# Altium footprint library PlateCutouts_OldMoney.PcbLib: 27 footprints (part 2 of 3)
Each footprint in its own frame and in the unit in brackets; x right, y up, seen from the top. Pads: shape width x height; smd on the part's side, far side on the other; paste and mask are expansions set on the pad; w line width, h text height; cw(c..) or ccw(c..) is an arc to the next point about the centre after c.
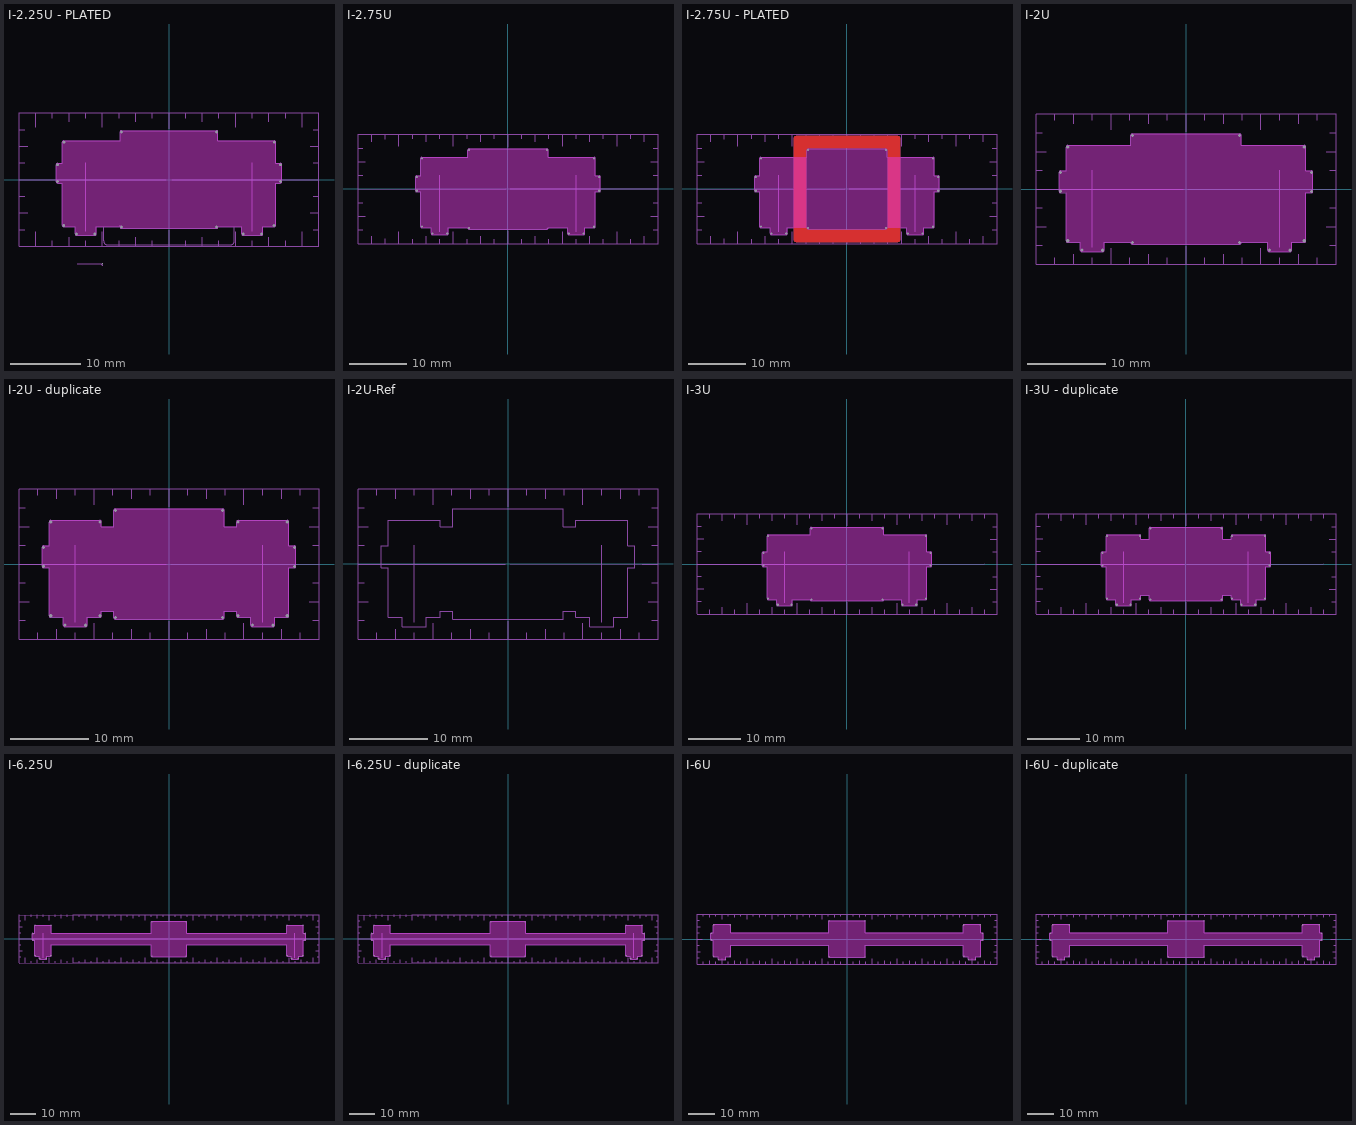
[diagram p1: the footprints below, top view; thin cyan lines are the x and y axes]

## I-2.25U - PLATED [mm] "Imperial Sizing"
pads (17):
  round 0.1 hole 0.4 unplated: 27(-15.925,-0.295) 27(-15.92,2.1) 27(-15.025,-6.565) 27(-15.02,5.33) 27(-13.2,-7.765) 27(-10.605,-7.77) 27(-6.8,-6.8) 27(-6.795,6.8) 27(6.795,-6.8) 27(6.8,6.795) 27(10.6,-7.765) 27(13.195,-7.77) 27(15.02,-6.57) 27(15.025,5.325) 27(15.92,-0.3) 27(15.925,2.095)
  round 0.05 hole 0.1: 31(-9.481,-12.033)
Keep-Out Layer:
  drawing of 1 lines, arcs and shapes, not listed
Board Outline:
  lines w0.1: -16.125,-0.3 ccw(c-15.925,-0.3) -15.925,-0.5 -15.225,-0.5 -15.225,-6.57 ccw(c-15.025,-6.57) -15.025,-6.77 -13.4,-6.77 -13.4,-7.77 ccw(c-13.2,-7.77) -13.2,-7.97 -10.6,-7.97 ccw(c-10.6,-7.77) -10.4,-7.77 -10.4,-6.77 -7,-6.77 -7,-6.8 ccw(c-6.8,-6.8) -6.8,-7 6.8,-7 ccw(c6.8,-6.8) 7,-6.8 7,-6.77 10.4,-6.77 10.4,-7.77 ccw(c10.6,-7.77) 10.6,-7.97 13.2,-7.97 ccw(c13.2,-7.77) 13.4,-7.77 13.4,-6.77 15.025,-6.77 ccw(c15.025,-6.57) 15.225,-6.57 15.225,-0.5 15.925,-0.5 ccw(c15.925,-0.3) 16.125,-0.3 16.125,2.1 ccw(c15.925,2.1) 15.925,2.3 15.225,2.3 15.225,5.33 ccw(c15.025,5.33) 15.025,5.53 7,5.53 7,6.8 ccw(c6.8,6.8) 6.8,7 -6.8,7 ccw(c-6.8,6.8) -7,6.8 -7,5.53 -15.025,5.53 ccw(c-15.025,5.33) -15.225,5.33 -15.225,2.3 -15.925,2.3 ccw(c-15.925,2.1) -16.125,2.1 -16.125,-0.3
  text "Cut Out" at -6.122,2.802 h1
  text "Cut Out" at 2.802,6.009 h1
  text "Cut Out" at 6.009,-2.915 h1
  text "Cut Out" at -2.915,-6.122 h1
Layout + Dimensions:
  lines w0.1: -21.431,-7.144 -20.644,-7.144 ; -21.431,-4.763 -20.161,-4.763 ; -21.431,-2.381 -20.644,-2.381 ; -21.431,0 -0.375,0 ; -21.431,2.381 -20.644,2.381 ; -21.431,4.762 -20.161,4.762 ; -21.431,7.144 -20.644,7.144 ; -19.05,-9.5 -19.05,-7.5 ; -19.05,7.5 -19.05,9.5 ; -16.669,-9.525 -16.669,-8.738 ; -16.669,8.738 -16.669,9.525 ; -14.287,-9.525 -14.287,-8.255 ; -14.287,8.255 -14.287,9.525 ; -13.081,-12.008 -9.681,-12.008 -9.681,-12.038 ccw(c-9.481,-12.038) -9.481,-12.238 ; -11.906,-9.525 -11.906,-8.738 ; -11.906,8.738 -11.906,9.525 ; -11.9,-7.425 -11.9,2.375 ; -9.525,-9.5 -9.525,-7.5 ; -9.525,7.5 -9.525,9.5 ; -9.335,-6.765 -7.45,-6.765 -7.429,-6.785 ; -7.144,-9.525 -7.144,-8.738 ; -7.144,8.738 -7.144,9.525 ; -7,-6.8 ccw(c-6.8,-6.8) -6.8,-7 -6.354,-7 ; -7,-6.785 -7,-6.505 ; -4.763,-9.525 -4.763,-8.255 ; -4.763,8.255 -4.763,9.525 ; -2.381,-9.525 -2.381,-8.738 ; -2.381,8.738 -2.381,9.525 ; 0,-7.25 0,-9.525 ; 0,7.25 0,9.525 ; 0.375,0 21.431,0 ; 2.381,-9.525 2.381,-8.738 ; 2.381,8.738 2.381,9.525 ; 4.763,-9.525 4.763,-8.255 ; 4.763,8.255 4.763,9.525 ; 6.796,-7 ccw(c6.795,-6.8) 6.995,-6.801 6.995,-6.77 9.334,-6.77 ; 7.144,-9.525 7.144,-8.738 ; 7.144,8.738 7.144,9.525 ; 9.525,-9.5 9.525,-7.5 ; 9.525,7.5 9.525,9.5 ; 11.9,-7.425 11.9,2.375 ; 11.906,-9.525 11.906,-8.738 ; 11.906,8.738 11.906,9.525 ; 14.287,-9.525 14.287,-8.255 ; 14.287,8.255 14.287,9.525 ; 16.669,-9.525 16.669,-8.738 ; 16.669,8.738 16.669,9.525 ; 19.05,-9.5 19.05,-7.5 ; 19.05,7.5 19.05,9.5 ; 20.161,-4.763 21.431,-4.763 ; 20.161,4.762 21.431,4.762 ; 20.644,-7.144 21.431,-7.144 ; 20.644,-2.381 21.431,-2.381 ; 20.644,2.381 21.431,2.381 ; 20.644,7.144 21.431,7.144 ; 0,-9.525 21.431,-9.525 21.431,9.525 0,9.525 ; 0,-9.525 -21.431,-9.525 -21.431,9.525 0,9.525
  lines w0.102: -9.335,-6.77 -9.335,-8.776 ccw(c-8.776,-8.776) -8.776,-9.335 8.776,-9.335 ccw(c8.776,-8.776) 9.334,-8.776 9.334,-6.77

## I-2.75U [mm] "Imperial Sizing"
pads (15):
  round 0.1 hole 0.4 unplated: 27(-15.925,-0.295) 27(-15.92,2.1) 27(-15.025,-6.565) 27(-15.02,5.33) 27(-13.2,-7.765) 27(-10.605,-7.77) 27(-6.8,-6.795) 27(-6.795,6.8) 27(6.8,6.795) 27(10.6,-7.765) 27(13.195,-7.77) 27(15.02,-6.57) 27(15.025,5.325) 27(15.92,-0.3) 27(15.925,2.095)
Keep-Out Layer:
  drawing of 1 lines, arcs and shapes, not listed
Board Outline:
  lines w0.1: -16.125,-0.3 ccw(c-15.925,-0.3) -15.925,-0.5 -15.225,-0.5 -15.225,-6.57 ccw(c-15.025,-6.57) -15.025,-6.77 -13.4,-6.77 -13.4,-7.77 ccw(c-13.2,-7.77) -13.2,-7.97 -10.6,-7.97 ccw(c-10.6,-7.77) -10.4,-7.77 -10.4,-6.77 -7,-6.77 -7,-6.8 ccw(c-6.8,-6.8) -6.8,-7 6.8,-7 ccw(c6.8,-6.8) 7,-6.8 7,-6.77 10.4,-6.77 10.4,-7.77 ccw(c10.6,-7.77) 10.6,-7.97 13.2,-7.97 ccw(c13.2,-7.77) 13.4,-7.77 13.4,-6.77 15.025,-6.77 ccw(c15.025,-6.57) 15.225,-6.57 15.225,-0.5 15.925,-0.5 ccw(c15.925,-0.3) 16.125,-0.3 16.125,2.1 ccw(c15.925,2.1) 15.925,2.3 15.225,2.3 15.225,5.33 ccw(c15.025,5.33) 15.025,5.53 7,5.53 7,6.8 ccw(c6.8,6.8) 6.8,7 -6.8,7 ccw(c-6.8,6.8) -7,6.8 -7,5.53 -15.025,5.53 ccw(c-15.025,5.33) -15.225,5.33 -15.225,2.3 -15.925,2.3 ccw(c-15.925,2.1) -16.125,2.1 -16.125,-0.3
  text "Cut Out" at -2.915,-6.117 h1
  text "Cut Out" at 6.009,-2.91 h1
  text "Cut Out" at 2.802,6.014 h1
  text "Cut Out" at -6.122,2.807 h1
Layout + Dimensions:
  lines w0.1: -26.194,-7.144 -25.406,-7.144 ; -26.194,-4.763 -24.924,-4.763 ; -26.194,-2.381 -25.406,-2.381 ; -26.194,0 -0.375,0 ; -26.194,2.381 -25.406,2.381 ; -26.194,4.763 -24.924,4.763 ; -26.194,7.144 -25.406,7.144 ; -23.812,-9.5 -23.812,-8.23 ; -23.812,8.23 -23.812,9.5 ; -21.431,-9.5 -21.431,-8.713 ; -21.431,8.713 -21.431,9.5 ; -19.05,-9.5 -19.05,-7.5 ; -19.05,7.5 -19.05,9.5 ; -16.669,-9.525 -16.669,-8.738 ; -16.669,8.738 -16.669,9.525 ; -14.287,-9.525 -14.287,-8.255 ; -14.287,8.255 -14.287,9.525 ; -11.906,-9.525 -11.906,-8.738 ; -11.906,8.738 -11.906,9.525 ; -11.9,-7.425 -11.9,2.375 ; -9.525,-9.5 -9.525,-7.5 ; -9.525,7.5 -9.525,9.5 ; -7.144,-9.525 -7.144,-8.738 ; -7.144,8.738 -7.144,9.525 ; -4.762,-9.525 -4.762,-8.255 ; -4.762,8.255 -4.762,9.525 ; -2.381,-9.525 -2.381,-8.738 ; -2.381,8.738 -2.381,9.525 ; 0,-7.25 0,-9.525 ; 0,7.25 0,9.525 ; 0.375,0 26.194,0 ; 2.381,-9.525 2.381,-8.738 ; 2.381,8.738 2.381,9.525 ; 4.763,-9.525 4.763,-8.255 ; 4.763,8.255 4.763,9.525 ; 7.144,-9.525 7.144,-8.738 ; 7.144,8.738 7.144,9.525 ; 9.525,-9.5 9.525,-7.5 ; 9.525,7.5 9.525,9.5 ; 11.9,-7.425 11.9,2.375 ; 11.906,-9.525 11.906,-8.738 ; 11.906,8.738 11.906,9.525 ; 14.288,-9.525 14.288,-8.255 ; 14.288,8.255 14.288,9.525 ; 16.669,-9.525 16.669,-8.738 ; 16.669,8.738 16.669,9.525 ; 19.05,-9.525 19.05,-7.5 ; 19.05,7.5 19.05,9.525 ; 21.431,-9.525 21.431,-8.738 ; 21.431,8.738 21.431,9.525 ; 23.813,-9.525 23.813,-8.255 ; 23.813,8.255 23.813,9.525 ; 24.924,-4.763 26.194,-4.763 ; 24.924,4.762 26.194,4.762 ; 25.406,-7.144 26.194,-7.144 ; 25.406,-2.381 26.194,-2.381 ; 25.406,2.381 26.194,2.381 ; 25.406,7.144 26.194,7.144 ; 0,-9.525 -26.194,-9.525 -26.194,9.525 0,9.525 ; 0,-9.525 26.194,-9.525 26.194,9.525 0,9.525

## I-2.75U - PLATED [mm] "Imperial Sizing"
pads (16):
  round 0.1 hole 0.4 unplated: 27(-15.925,-0.295) 27(-15.92,2.1) 27(-15.025,-6.565) 27(-15.02,5.33) 27(-13.2,-7.765) 27(-10.605,-7.77) 27(-6.8,-6.795) 27(-6.795,6.8) 27(6.795,-6.8) 27(6.8,6.795) 27(10.6,-7.765) 27(13.195,-7.77) 27(15.02,-6.57) 27(15.025,5.325) 27(15.92,-0.3) 27(15.925,2.095)
Top Layer:
  region: 9.092,9.249 9.249,9.092 9.334,8.887 9.334,8.776 9.334,-8.776 9.334,-8.887 9.249,-9.092 9.092,-9.249 8.887,-9.335 -8.887,-9.335 -9.092,-9.249 -9.249,-9.092 -9.335,-8.887 -9.335,-8.776 -9.335,8.776 -9.335,8.887 -9.249,9.092 -9.092,9.249 -8.887,9.335 8.887,9.335 hole: 6.744,7.003 6.719,6.998 -6.719,6.998 -6.744,7.003 -6.769,6.998 -6.794,6.998 -6.818,6.988 -6.843,6.983 -6.864,6.969 -6.888,6.959 -6.906,6.941 -6.927,6.927 -6.941,6.906 -6.959,6.888 -6.969,6.864 -6.983,6.843 -6.988,6.818 -6.998,6.794 -6.998,6.769 -7.003,6.744 -6.998,6.719 -6.998,-6.719 -7.003,-6.744 -6.998,-6.769 -6.998,-6.794 -6.988,-6.818 -6.983,-6.843 -6.969,-6.864 -6.959,-6.888 -6.941,-6.906 -6.927,-6.927 -6.906,-6.941 -6.888,-6.959 -6.864,-6.969 -6.843,-6.983 -6.818,-6.988 -6.794,-6.998 -6.769,-6.998 -6.744,-7.003 -6.719,-6.998 6.719,-6.998 6.744,-7.003 6.769,-6.998 6.794,-6.998 6.818,-6.988 6.843,-6.983 6.864,-6.969 6.888,-6.959 6.906,-6.941 6.927,-6.927 6.941,-6.906 6.959,-6.888 6.969,-6.864 6.983,-6.843 6.988,-6.818 6.998,-6.794 6.998,-6.769 7.003,-6.744 6.998,-6.719 6.998,6.719 7.003,6.744 6.998,6.769 6.998,6.794 6.988,6.818 6.983,6.843 6.969,6.864 6.959,6.888 6.941,6.906 6.927,6.927 6.906,6.941 6.888,6.959 6.864,6.969 6.843,6.983 6.818,6.988 6.794,6.998 6.769,6.998
Bottom Layer:
  region: 9.092,9.249 9.249,9.092 9.334,8.887 9.334,8.776 9.334,-8.776 9.334,-8.887 9.249,-9.092 9.092,-9.249 8.887,-9.335 -8.887,-9.335 -9.092,-9.249 -9.249,-9.092 -9.335,-8.887 -9.335,-8.776 -9.335,8.776 -9.335,8.887 -9.249,9.092 -9.092,9.249 -8.887,9.335 8.887,9.335 hole: 6.744,7.003 6.719,6.998 -6.719,6.998 -6.744,7.003 -6.769,6.998 -6.794,6.998 -6.818,6.988 -6.843,6.983 -6.864,6.969 -6.888,6.959 -6.906,6.941 -6.927,6.927 -6.941,6.906 -6.959,6.888 -6.969,6.864 -6.983,6.843 -6.988,6.818 -6.998,6.794 -6.998,6.769 -7.003,6.744 -6.998,6.719 -6.998,-6.719 -7.003,-6.744 -6.998,-6.769 -6.998,-6.794 -6.988,-6.818 -6.983,-6.843 -6.969,-6.864 -6.959,-6.888 -6.941,-6.906 -6.927,-6.927 -6.906,-6.941 -6.888,-6.959 -6.864,-6.969 -6.843,-6.983 -6.818,-6.988 -6.794,-6.998 -6.769,-6.998 -6.744,-7.003 -6.719,-6.998 6.719,-6.998 6.744,-7.003 6.769,-6.998 6.794,-6.998 6.818,-6.988 6.843,-6.983 6.864,-6.969 6.888,-6.959 6.906,-6.941 6.927,-6.927 6.941,-6.906 6.959,-6.888 6.969,-6.864 6.983,-6.843 6.988,-6.818 6.998,-6.794 6.998,-6.769 7.003,-6.744 6.998,-6.719 6.998,6.719 7.003,6.744 6.998,6.769 6.998,6.794 6.988,6.818 6.983,6.843 6.969,6.864 6.959,6.888 6.941,6.906 6.927,6.927 6.906,6.941 6.888,6.959 6.864,6.969 6.843,6.983 6.818,6.988 6.794,6.998 6.769,6.998
Top Solder:
  region: -8.776,-9.335 -8.887,-9.335 -9.092,-9.249 -9.249,-9.092 -9.335,-8.887 -9.335,-8.776 -9.335,8.776 -9.335,8.887 -9.249,9.092 -9.092,9.249 -8.887,9.335 -8.776,9.335 8.776,9.335 8.887,9.335 9.092,9.249 9.249,9.092 9.334,8.887 9.334,8.776 9.334,-8.776 9.334,-8.887 9.249,-9.092 9.092,-9.249 8.887,-9.335 8.776,-9.335
Bottom Solder:
  region: -8.776,-9.335 -8.887,-9.335 -9.092,-9.249 -9.249,-9.092 -9.335,-8.887 -9.335,-8.776 -9.335,8.776 -9.335,8.887 -9.249,9.092 -9.092,9.249 -8.887,9.335 -8.776,9.335 8.776,9.335 8.887,9.335 9.092,9.249 9.249,9.092 9.334,8.887 9.334,8.776 9.334,-8.776 9.334,-8.887 9.249,-9.092 9.092,-9.249 8.887,-9.335 8.776,-9.335
Keep-Out Layer:
  drawing of 1 lines, arcs and shapes, not listed
Board Outline:
  lines w0.1: -16.125,-0.3 ccw(c-15.925,-0.3) -15.925,-0.5 -15.225,-0.5 -15.225,-6.57 ccw(c-15.025,-6.57) -15.025,-6.77 -13.4,-6.77 -13.4,-7.77 ccw(c-13.2,-7.77) -13.2,-7.97 -10.6,-7.97 ccw(c-10.6,-7.77) -10.4,-7.77 -10.4,-6.77 -7,-6.77 -7,-6.8 ccw(c-6.8,-6.8) -6.8,-7 6.8,-7 ccw(c6.8,-6.8) 7,-6.8 7,-6.77 10.4,-6.77 10.4,-7.77 ccw(c10.6,-7.77) 10.6,-7.97 13.2,-7.97 ccw(c13.2,-7.77) 13.4,-7.77 13.4,-6.77 15.025,-6.77 ccw(c15.025,-6.57) 15.225,-6.57 15.225,-0.5 15.925,-0.5 ccw(c15.925,-0.3) 16.125,-0.3 16.125,2.1 ccw(c15.925,2.1) 15.925,2.3 15.225,2.3 15.225,5.33 ccw(c15.025,5.33) 15.025,5.53 7,5.53 7,6.8 ccw(c6.8,6.8) 6.8,7 -6.8,7 ccw(c-6.8,6.8) -7,6.8 -7,5.53 -15.025,5.53 ccw(c-15.025,5.33) -15.225,5.33 -15.225,2.3 -15.925,2.3 ccw(c-15.925,2.1) -16.125,2.1 -16.125,-0.3
  text "Cut Out" at -6.122,2.807 h1
  text "Cut Out" at 2.802,6.014 h1
  text "Cut Out" at 6.009,-2.91 h1
  text "Cut Out" at -2.915,-6.117 h1
Layout + Dimensions:
  lines w0.1: -26.194,-7.144 -25.406,-7.144 ; -26.194,-4.763 -24.924,-4.763 ; -26.194,-2.381 -25.406,-2.381 ; -26.194,0 -0.375,0 ; -26.194,2.381 -25.406,2.381 ; -26.194,4.763 -24.924,4.763 ; -26.194,7.144 -25.406,7.144 ; -23.812,-9.5 -23.812,-8.23 ; -23.812,8.23 -23.812,9.5 ; -21.431,-9.5 -21.431,-8.713 ; -21.431,8.713 -21.431,9.5 ; -19.05,-9.5 -19.05,-7.5 ; -19.05,7.5 -19.05,9.5 ; -16.669,-9.525 -16.669,-8.738 ; -16.669,8.738 -16.669,9.525 ; -14.287,-9.525 -14.287,-8.255 ; -14.287,8.255 -14.287,9.525 ; -11.906,-9.525 -11.906,-8.738 ; -11.906,8.738 -11.906,9.525 ; -11.9,-7.425 -11.9,2.375 ; -9.525,-9.5 -9.525,-7.5 ; -9.525,7.5 -9.525,9.5 ; -7.144,-9.525 -7.144,-8.738 ; -7.144,8.738 -7.144,9.525 ; -4.762,-9.525 -4.762,-8.255 ; -4.762,8.255 -4.762,9.525 ; -2.381,-9.525 -2.381,-8.738 ; -2.381,8.738 -2.381,9.525 ; 0,-7.25 0,-9.525 ; 0,7.25 0,9.525 ; 0.375,0 26.194,0 ; 2.381,-9.525 2.381,-8.738 ; 2.381,8.738 2.381,9.525 ; 4.763,-9.525 4.763,-8.255 ; 4.763,8.255 4.763,9.525 ; 7.144,-9.525 7.144,-8.738 ; 7.144,8.738 7.144,9.525 ; 9.525,-9.5 9.525,-7.5 ; 9.525,7.5 9.525,9.5 ; 11.9,-7.425 11.9,2.375 ; 11.906,-9.525 11.906,-8.738 ; 11.906,8.738 11.906,9.525 ; 14.288,-9.525 14.288,-8.255 ; 14.288,8.255 14.288,9.525 ; 16.669,-9.525 16.669,-8.738 ; 16.669,8.738 16.669,9.525 ; 19.05,-9.525 19.05,-7.5 ; 19.05,7.5 19.05,9.525 ; 21.431,-9.525 21.431,-8.738 ; 21.431,8.738 21.431,9.525 ; 23.813,-9.525 23.813,-8.255 ; 23.813,8.255 23.813,9.525 ; 24.924,-4.763 26.194,-4.763 ; 24.924,4.762 26.194,4.762 ; 25.406,-7.144 26.194,-7.144 ; 25.406,-2.381 26.194,-2.381 ; 25.406,2.381 26.194,2.381 ; 25.406,7.144 26.194,7.144 ; 0,-9.525 26.194,-9.525 26.194,9.525 0,9.525 ; 0,-9.525 -26.194,-9.525 -26.194,9.525 0,9.525

## I-2U [mm] "Imperial Sizing"
pads (16):
  round 0.1 hole 0.4 unplated: 27(-15.925,-0.295) 27(-15.92,2.1) 27(-15.025,-6.565) 27(-15.02,5.33) 27(-13.2,-7.765) 27(-10.605,-7.77) 27(-6.8,-6.795) 27(-6.795,6.8) 27(6.795,-6.8) 27(6.8,6.795) 27(10.6,-7.765) 27(13.195,-7.77) 27(15.02,-6.57) 27(15.025,5.325) 27(15.92,-0.3) 27(15.925,2.095)
Keep-Out Layer:
  drawing of 1 lines, arcs and shapes, not listed
Board Outline:
  lines w0.1: -16.125,-0.3 ccw(c-15.925,-0.3) -15.925,-0.5 -15.225,-0.5 -15.225,-6.57 ccw(c-15.025,-6.57) -15.025,-6.77 -13.4,-6.77 -13.4,-7.77 ccw(c-13.2,-7.77) -13.2,-7.97 -10.6,-7.97 ccw(c-10.6,-7.77) -10.4,-7.77 -10.4,-6.77 -7,-6.77 -7,-6.8 ccw(c-6.8,-6.8) -6.8,-7 6.8,-7 ccw(c6.8,-6.8) 7,-6.8 7,-6.77 10.4,-6.77 10.4,-7.77 ccw(c10.6,-7.77) 10.6,-7.97 13.2,-7.97 ccw(c13.2,-7.77) 13.4,-7.77 13.4,-6.77 15.025,-6.77 ccw(c15.025,-6.57) 15.225,-6.57 15.225,-0.5 15.925,-0.5 ccw(c15.925,-0.3) 16.125,-0.3 16.125,2.1 ccw(c15.925,2.1) 15.925,2.3 15.225,2.3 15.225,5.33 ccw(c15.025,5.33) 15.025,5.53 7,5.53 7,6.8 ccw(c6.8,6.8) 6.8,7 -6.8,7 ccw(c-6.8,6.8) -7,6.8 -7,5.53 -15.025,5.53 ccw(c-15.025,5.33) -15.225,5.33 -15.225,2.3 -15.925,2.3 ccw(c-15.925,2.1) -16.125,2.1 -16.125,-0.3
  text "Cut Out" at -6.122,2.802 h1
  text "Cut Out" at 2.802,6.009 h1
  text "Cut Out" at 6.009,-2.915 h1
  text "Cut Out" at -2.915,-6.122 h1
Layout + Dimensions:
  lines w0.1: -19.05,-7.144 -18.263,-7.144 ; -19.05,-4.763 -17.78,-4.763 ; -19.05,-2.381 -18.263,-2.381 ; -19.05,0 -0.375,0 ; -19.05,2.381 -18.263,2.381 ; -19.05,4.762 -17.78,4.762 ; -19.05,7.144 -18.263,7.144 ; -16.669,-9.525 -16.669,-8.738 ; -16.669,8.738 -16.669,9.525 ; -14.287,-9.525 -14.287,-8.255 ; -14.287,8.255 -14.287,9.525 ; -11.906,-9.525 -11.906,-8.738 ; -11.906,8.738 -11.906,9.525 ; -11.9,-7.425 -11.9,2.375 ; -9.525,-9.5 -9.525,-7.5 ; -9.525,7.5 -9.525,9.5 ; -7.144,-9.525 -7.144,-8.738 ; -7.144,8.738 -7.144,9.525 ; -4.763,-9.525 -4.763,-8.255 ; -4.763,8.255 -4.763,9.525 ; -2.381,-9.525 -2.381,-8.738 ; -2.381,8.738 -2.381,9.525 ; 0,-7.25 0,-9.525 ; 0,7.25 0,9.525 ; 0.375,0 19.05,0 ; 2.381,-9.525 2.381,-8.738 ; 2.381,8.738 2.381,9.525 ; 4.763,-9.525 4.763,-8.255 ; 4.763,8.255 4.763,9.525 ; 7.144,-9.525 7.144,-8.738 ; 7.144,8.738 7.144,9.525 ; 9.525,-9.5 9.525,-7.5 ; 9.525,7.5 9.525,9.5 ; 11.9,-7.425 11.9,2.375 ; 11.906,-9.525 11.906,-8.738 ; 11.906,8.738 11.906,9.525 ; 14.287,-9.525 14.287,-8.255 ; 14.287,8.255 14.287,9.525 ; 16.669,-9.525 16.669,-8.738 ; 16.669,8.738 16.669,9.525 ; 17.78,-4.763 19.05,-4.763 ; 17.78,4.762 19.05,4.762 ; 18.263,-7.144 19.05,-7.144 ; 18.263,-2.381 19.05,-2.381 ; 18.263,2.381 19.05,2.381 ; 18.263,7.144 19.05,7.144 ; 0,-9.525 -19.05,-9.525 -19.05,9.525 0,9.525 ; 0,-9.525 19.05,-9.525 19.05,9.525 0,9.525

## I-2U - duplicate [mm] "Imperial Sizing"
pads (20):
  round 0.1 hole 0.4 unplated: 27(-15.925,-0.295) 27(-15.92,2.1) 27(-15.025,-6.565) 27(-15.02,5.33) 27(-13.2,-7.765) 27(-10.605,-7.77) 27(-8.78,-6.57) 27(-8.775,5.325) 27(-6.8,-6.795) 27(-6.795,6.8) 27(6.795,-6.8) 27(6.8,6.795) 27(8.775,-6.565) 27(8.78,5.325) 27(10.6,-7.765) 27(13.195,-7.77) 27(15.02,-6.57) 27(15.025,5.325) 27(15.92,-0.3) 27(15.925,2.095)
Keep-Out Layer:
  drawing of 1 lines, arcs and shapes, not listed
Board Outline:
  lines w0.1: 8.775,5.525 ccw(c8.775,5.325) 8.575,5.325 8.575,4.725 7,4.725 7,6.8 ccw(c6.8,6.8) 6.8,7 -6.8,7 ccw(c-6.8,6.8) -7,6.8 -7,4.725 -8.575,4.725 -8.575,5.33 ccw(c-8.775,5.33) -8.775,5.53 -15.025,5.53 ccw(c-15.025,5.33) -15.225,5.33 -15.225,2.3 -15.925,2.3 ccw(c-15.925,2.1) -16.125,2.1 -16.125,-0.3 ccw(c-15.925,-0.3) -15.925,-0.5 -15.225,-0.5 -15.225,-6.57 ccw(c-15.025,-6.57) -15.025,-6.77 -13.4,-6.77 -13.4,-7.77 ccw(c-13.2,-7.77) -13.2,-7.97 -10.6,-7.97 ccw(c-10.6,-7.77) -10.4,-7.77 -10.4,-6.77 -8.775,-6.77 ccw(c-8.775,-6.57) -8.575,-6.57 -8.575,-5.97 -7,-5.97 -7,-6.8 ccw(c-6.8,-6.8) -6.8,-7 6.8,-7 ccw(c6.8,-6.8) 7,-6.8 7,-5.97 8.575,-5.97 8.575,-6.57 ccw(c8.775,-6.57) 8.775,-6.77 10.4,-6.77 10.4,-7.77 ccw(c10.6,-7.77) 10.6,-7.97 13.2,-7.97 ccw(c13.2,-7.77) 13.4,-7.77 13.4,-6.77 15.025,-6.77 ccw(c15.025,-6.57) 15.225,-6.57 15.225,-0.5 15.925,-0.5 ccw(c15.925,-0.3) 16.125,-0.3 16.125,2.1 ccw(c15.925,2.1) 15.925,2.3 15.225,2.3 15.225,5.33 ccw(c15.025,5.33) 15.025,5.53 8.775,5.53
  text "Cut Out" at -6.122,2.802 h1
  text "Cut Out" at 2.802,6.009 h1
  text "Cut Out" at 6.009,-2.915 h1
  text "Cut Out" at -2.915,-6.122 h1
Layout + Dimensions:
  lines w0.1: -19.05,-7.144 -18.263,-7.144 ; -19.05,-4.763 -17.78,-4.763 ; -19.05,-2.381 -18.263,-2.381 ; -19.05,0 -0.375,0 ; -19.05,2.381 -18.263,2.381 ; -19.05,4.762 -17.78,4.762 ; -19.05,7.144 -18.263,7.144 ; -16.669,-9.525 -16.669,-8.738 ; -16.669,8.738 -16.669,9.525 ; -14.287,-9.525 -14.287,-8.255 ; -14.287,8.255 -14.287,9.525 ; -11.906,-9.525 -11.906,-8.738 ; -11.906,8.738 -11.906,9.525 ; -11.9,-7.425 -11.9,2.375 ; -9.525,-9.5 -9.525,-7.5 ; -9.525,7.5 -9.525,9.5 ; -7.144,-9.525 -7.144,-8.738 ; -7.144,8.738 -7.144,9.525 ; -4.763,-9.525 -4.763,-8.255 ; -4.763,8.255 -4.763,9.525 ; -2.381,-9.525 -2.381,-8.738 ; -2.381,8.738 -2.381,9.525 ; 0,-7.25 0,-9.525 ; 0,7.25 0,9.525 ; 0.375,0 19.05,0 ; 2.381,-9.525 2.381,-8.738 ; 2.381,8.738 2.381,9.525 ; 4.763,-9.525 4.763,-8.255 ; 4.763,8.255 4.763,9.525 ; 7.144,-9.525 7.144,-8.738 ; 7.144,8.738 7.144,9.525 ; 9.525,-9.5 9.525,-7.5 ; 9.525,7.5 9.525,9.5 ; 11.9,-7.425 11.9,2.375 ; 11.906,-9.525 11.906,-8.738 ; 11.906,8.738 11.906,9.525 ; 14.287,-9.525 14.287,-8.255 ; 14.287,8.255 14.287,9.525 ; 16.669,-9.525 16.669,-8.738 ; 16.669,8.738 16.669,9.525 ; 17.78,-4.763 19.05,-4.763 ; 17.78,4.762 19.05,4.762 ; 18.263,-7.144 19.05,-7.144 ; 18.263,-2.381 19.05,-2.381 ; 18.263,2.381 19.05,2.381 ; 18.263,7.144 19.05,7.144 ; 0,-9.525 -19.05,-9.525 -19.05,9.525 0,9.525 ; 0,-9.525 19.05,-9.525 19.05,9.525 0,9.525

## I-2U-Ref [mm] "Referance from the MX Datasheet, Imperial Sizing"
Board Outline:
  lines w0.1: -8.575,5.525 -8.575,4.725 -7,4.725 -7,7 ; -8.575,5.53 -15.225,5.53 -15.225,2.3 -16.125,2.3 -16.125,-0.5 -15.225,-0.5 -15.225,-6.77 -13.4,-6.77 -13.4,-7.97 -10.4,-7.97 -10.4,-6.77 -8.575,-6.77 -8.575,-5.97 -7,-5.97 -7,-7 7,-7 7,-5.97 8.575,-5.97 8.575,-6.77 10.4,-6.77 10.4,-7.97 13.4,-7.97 13.4,-6.77 15.225,-6.77 15.225,-0.5 16.125,-0.5 16.125,2.3 15.225,2.3 15.225,5.53 8.575,5.53 ; 8.575,5.525 8.575,4.725 7,4.725 7,7 ; -7,7 7,7 ; -7,7 7,7
Layout + Dimensions:
  lines w0.1: -19.05,-7.144 -18.263,-7.144 ; -19.05,-4.763 -17.78,-4.763 ; -19.05,-2.381 -18.263,-2.381 ; -19.05,2.381 -18.263,2.381 ; -19.05,4.762 -17.78,4.762 ; -19.05,7.144 -18.263,7.144 ; -19.025,0 -17.025,0 ; -19,0 -0.375,0 ; -16.669,-9.525 -16.669,-8.738 ; -16.669,8.738 -16.669,9.525 ; -14.287,-9.525 -14.287,-8.255 ; -14.287,8.255 -14.287,9.525 ; -11.906,-9.525 -11.906,-8.738 ; -11.906,8.738 -11.906,9.525 ; -11.9,-7.425 -11.9,2.375 ; -9.525,-9.5 -9.525,-7.5 ; -9.525,7.5 -9.525,9.5 ; -7.144,-9.525 -7.144,-8.738 ; -7.144,8.738 -7.144,9.525 ; -4.763,-9.525 -4.763,-8.255 ; -4.763,8.255 -4.763,9.525 ; -2.381,-9.525 -2.381,-8.738 ; -2.381,8.738 -2.381,9.525 ; 0,-7.25 0,-9.525 ; 0,7.25 0,9.525 ; 0.375,0 19,0 ; 2.381,-9.525 2.381,-8.738 ; 2.381,8.738 2.381,9.525 ; 4.763,-9.525 4.763,-8.255 ; 4.763,8.255 4.763,9.525 ; 7.144,-9.525 7.144,-8.738 ; 7.144,8.738 7.144,9.525 ; 9.525,-9.5 9.525,-7.5 ; 9.525,7.5 9.525,9.5 ; 11.9,-7.425 11.9,2.375 ; 11.906,-9.525 11.906,-8.738 ; 11.906,8.738 11.906,9.525 ; 14.287,-9.525 14.287,-8.255 ; 14.287,8.255 14.287,9.525 ; 16.669,-9.525 16.669,-8.738 ; 16.669,8.738 16.669,9.525 ; 17.025,0 19.025,0 ; 17.78,-4.763 19.05,-4.763 ; 17.78,4.762 19.05,4.762 ; 18.263,-7.144 19.05,-7.144 ; 18.263,-2.381 19.05,-2.381 ; 18.263,2.381 19.05,2.381 ; 18.263,7.144 19.05,7.144 ; 0,-9.525 19.05,-9.525 19.05,9.525 0,9.525 ; 0,-9.525 -19.05,-9.525 -19.05,9.525 0,9.525

## I-3U [mm] "Imperial Sizing"
pads (16):
  round 0.1 hole 0.4 unplated: 27(-15.925,-0.295) 27(-15.92,2.1) 27(-15.025,-6.565) 27(-15.02,5.33) 27(-13.2,-7.765) 27(-10.605,-7.77) 27(-6.8,-6.795) 27(-6.795,6.8) 27(6.795,-6.8) 27(6.8,6.795) 27(10.6,-7.765) 27(13.195,-7.77) 27(15.02,-6.57) 27(15.025,5.325) 27(15.92,-0.3) 27(15.925,2.095)
Keep-Out Layer:
  drawing of 1 lines, arcs and shapes, not listed
Board Outline:
  lines w0.1: -16.125,-0.3 ccw(c-15.925,-0.3) -15.925,-0.5 -15.225,-0.5 -15.225,-6.57 ccw(c-15.025,-6.57) -15.025,-6.77 -13.4,-6.77 -13.4,-7.77 ccw(c-13.2,-7.77) -13.2,-7.97 -10.6,-7.97 ccw(c-10.6,-7.77) -10.4,-7.77 -10.4,-6.77 -7,-6.77 -7,-6.8 ccw(c-6.8,-6.8) -6.8,-7 6.8,-7 ccw(c6.8,-6.8) 7,-6.8 7,-6.77 10.4,-6.77 10.4,-7.77 ccw(c10.6,-7.77) 10.6,-7.97 13.2,-7.97 ccw(c13.2,-7.77) 13.4,-7.77 13.4,-6.77 15.025,-6.77 ccw(c15.025,-6.57) 15.225,-6.57 15.225,-0.5 15.925,-0.5 ccw(c15.925,-0.3) 16.125,-0.3 16.125,2.1 ccw(c15.925,2.1) 15.925,2.3 15.225,2.3 15.225,5.33 ccw(c15.025,5.33) 15.025,5.53 7,5.53 7,6.8 ccw(c6.8,6.8) 6.8,7 -6.8,7 ccw(c-6.8,6.8) -7,6.8 -7,5.53 -15.025,5.53 ccw(c-15.025,5.33) -15.225,5.33 -15.225,2.3 -15.925,2.3 ccw(c-15.925,2.1) -16.125,2.1 -16.125,-0.3
  text "Cut Out" at -6.122,2.802 h1
  text "Cut Out" at 2.802,6.009 h1
  text "Cut Out" at 6.009,-2.915 h1
  text "Cut Out" at -2.915,-6.122 h1
Layout + Dimensions:
  lines w0.1: -28.575,-7.144 -27.788,-7.144 ; -28.575,-4.762 -27.305,-4.762 ; -28.575,-2.381 -27.788,-2.381 ; -28.575,0 -0.375,0 ; -28.575,2.381 -27.788,2.381 ; -28.575,4.763 -27.305,4.763 ; -28.575,7.144 -27.788,7.144 ; -26.194,-9.5 -26.194,-8.713 ; -26.194,8.713 -26.194,9.5 ; -23.812,-9.5 -23.812,-8.23 ; -23.812,8.23 -23.812,9.5 ; -21.431,-9.5 -21.431,-8.713 ; -21.431,8.713 -21.431,9.5 ; -19.05,-9.5 -19.05,-7.5 ; -19.05,7.5 -19.05,9.5 ; -16.669,-9.525 -16.669,-8.738 ; -16.669,8.738 -16.669,9.525 ; -14.287,-9.525 -14.287,-8.255 ; -14.287,8.255 -14.287,9.525 ; -11.906,-9.525 -11.906,-8.738 ; -11.906,8.738 -11.906,9.525 ; -11.9,-7.425 -11.9,2.375 ; -9.525,-9.5 -9.525,-7.5 ; -9.525,7.5 -9.525,9.5 ; -7.144,-9.525 -7.144,-8.738 ; -7.144,8.738 -7.144,9.525 ; -4.762,-9.525 -4.762,-8.255 ; -4.762,8.255 -4.762,9.525 ; -2.381,-9.525 -2.381,-8.738 ; -2.381,8.738 -2.381,9.525 ; 0,-7.25 0,-9.525 ; 0,7.25 0,9.525 ; 0.375,0 26.194,0 ; 2.381,-9.525 2.381,-8.738 ; 2.381,8.738 2.381,9.525 ; 4.763,-9.525 4.763,-8.255 ; 4.763,8.255 4.763,9.525 ; 7.144,-9.525 7.144,-8.738 ; 7.144,8.738 7.144,9.525 ; 9.525,-9.5 9.525,-7.5 ; 9.525,7.5 9.525,9.5 ; 11.9,-7.425 11.9,2.375 ; 11.906,-9.525 11.906,-8.738 ; 11.906,8.738 11.906,9.525 ; 14.288,-9.525 14.288,-8.255 ; 14.288,8.255 14.288,9.525 ; 16.669,-9.525 16.669,-8.738 ; 16.669,8.738 16.669,9.525 ; 19.05,-9.525 19.05,-7.5 ; 19.05,7.5 19.05,9.525 ; 21.431,-9.525 21.431,-8.738 ; 21.431,8.738 21.431,9.525 ; 23.813,-9.525 23.813,-8.255 ; 23.813,8.255 23.813,9.525 ; 26.194,-9.525 26.194,-8.738 ; 26.194,8.738 26.194,9.525 ; 27.305,-4.763 28.575,-4.763 ; 27.305,4.762 28.575,4.762 ; 27.788,-7.144 28.575,-7.144 ; 27.788,-2.381 28.575,-2.381 ; 27.788,2.381 28.575,2.381 ; 27.788,7.144 28.575,7.144 ; 0,-9.525 -28.575,-9.525 -28.575,9.525 0,9.525 ; 0,-9.525 28.575,-9.525 28.575,9.525 0,9.525

## I-3U - duplicate [mm] "Imperial Sizing"
pads (20):
  round 0.1 hole 0.4 unplated: 27(-15.925,-0.295) 27(-15.92,2.1) 27(-15.025,-6.565) 27(-15.02,5.33) 27(-13.2,-7.765) 27(-10.605,-7.77) 27(-8.78,-6.57) 27(-8.775,5.325) 27(-6.8,-6.795) 27(-6.795,6.8) 27(6.795,-6.8) 27(6.8,6.795) 27(8.775,-6.565) 27(8.78,5.325) 27(10.6,-7.765) 27(13.195,-7.77) 27(15.02,-6.57) 27(15.025,5.325) 27(15.92,-0.3) 27(15.925,2.095)
Keep-Out Layer:
  drawing of 1 lines, arcs and shapes, not listed
Board Outline:
  lines w0.1: 8.775,5.525 ccw(c8.775,5.325) 8.575,5.325 8.575,4.725 7,4.725 7,6.8 ccw(c6.8,6.8) 6.8,7 -6.8,7 ccw(c-6.8,6.8) -7,6.8 -7,4.725 -8.575,4.725 -8.575,5.33 ccw(c-8.775,5.33) -8.775,5.53 -15.025,5.53 ccw(c-15.025,5.33) -15.225,5.33 -15.225,2.3 -15.925,2.3 ccw(c-15.925,2.1) -16.125,2.1 -16.125,-0.3 ccw(c-15.925,-0.3) -15.925,-0.5 -15.225,-0.5 -15.225,-6.57 ccw(c-15.025,-6.57) -15.025,-6.77 -13.4,-6.77 -13.4,-7.77 ccw(c-13.2,-7.77) -13.2,-7.97 -10.6,-7.97 ccw(c-10.6,-7.77) -10.4,-7.77 -10.4,-6.77 -8.775,-6.77 ccw(c-8.775,-6.57) -8.575,-6.57 -8.575,-5.97 -7,-5.97 -7,-6.8 ccw(c-6.8,-6.8) -6.8,-7 6.8,-7 ccw(c6.8,-6.8) 7,-6.8 7,-5.97 8.575,-5.97 8.575,-6.57 ccw(c8.775,-6.57) 8.775,-6.77 10.4,-6.77 10.4,-7.77 ccw(c10.6,-7.77) 10.6,-7.97 13.2,-7.97 ccw(c13.2,-7.77) 13.4,-7.77 13.4,-6.77 15.025,-6.77 ccw(c15.025,-6.57) 15.225,-6.57 15.225,-0.5 15.925,-0.5 ccw(c15.925,-0.3) 16.125,-0.3 16.125,2.1 ccw(c15.925,2.1) 15.925,2.3 15.225,2.3 15.225,5.33 ccw(c15.025,5.33) 15.025,5.53 8.775,5.53
  text "Cut Out" at -6.122,2.802 h1
  text "Cut Out" at 2.802,6.009 h1
  text "Cut Out" at 6.009,-2.915 h1
  text "Cut Out" at -2.915,-6.122 h1
Layout + Dimensions:
  lines w0.1: -28.575,-7.144 -27.788,-7.144 ; -28.575,-4.762 -27.305,-4.762 ; -28.575,-2.381 -27.788,-2.381 ; -28.575,0 -0.375,0 ; -28.575,2.381 -27.788,2.381 ; -28.575,4.763 -27.305,4.763 ; -28.575,7.144 -27.788,7.144 ; -26.194,-9.5 -26.194,-8.713 ; -26.194,8.713 -26.194,9.5 ; -23.812,-9.5 -23.812,-8.23 ; -23.812,8.23 -23.812,9.5 ; -21.431,-9.5 -21.431,-8.713 ; -21.431,8.713 -21.431,9.5 ; -19.05,-9.5 -19.05,-7.5 ; -19.05,7.5 -19.05,9.5 ; -16.669,-9.525 -16.669,-8.738 ; -16.669,8.738 -16.669,9.525 ; -14.287,-9.525 -14.287,-8.255 ; -14.287,8.255 -14.287,9.525 ; -11.906,-9.525 -11.906,-8.738 ; -11.906,8.738 -11.906,9.525 ; -11.9,-7.425 -11.9,2.375 ; -9.525,-9.5 -9.525,-7.5 ; -9.525,7.5 -9.525,9.5 ; -7.144,-9.525 -7.144,-8.738 ; -7.144,8.738 -7.144,9.525 ; -4.762,-9.525 -4.762,-8.255 ; -4.762,8.255 -4.762,9.525 ; -2.381,-9.525 -2.381,-8.738 ; -2.381,8.738 -2.381,9.525 ; 0,-7.25 0,-9.525 ; 0,7.25 0,9.525 ; 0.375,0 26.194,0 ; 2.381,-9.525 2.381,-8.738 ; 2.381,8.738 2.381,9.525 ; 4.763,-9.525 4.763,-8.255 ; 4.763,8.255 4.763,9.525 ; 7.144,-9.525 7.144,-8.738 ; 7.144,8.738 7.144,9.525 ; 9.525,-9.5 9.525,-7.5 ; 9.525,7.5 9.525,9.5 ; 11.9,-7.425 11.9,2.375 ; 11.906,-9.525 11.906,-8.738 ; 11.906,8.738 11.906,9.525 ; 14.288,-9.525 14.288,-8.255 ; 14.288,8.255 14.288,9.525 ; 16.669,-9.525 16.669,-8.738 ; 16.669,8.738 16.669,9.525 ; 19.05,-9.525 19.05,-7.5 ; 19.05,7.5 19.05,9.525 ; 21.431,-9.525 21.431,-8.738 ; 21.431,8.738 21.431,9.525 ; 23.813,-9.525 23.813,-8.255 ; 23.813,8.255 23.813,9.525 ; 26.194,-9.525 26.194,-8.738 ; 26.194,8.738 26.194,9.525 ; 27.305,-4.763 28.575,-4.763 ; 27.305,4.762 28.575,4.762 ; 27.788,-7.144 28.575,-7.144 ; 27.788,-2.381 28.575,-2.381 ; 27.788,2.381 28.575,2.381 ; 27.788,7.144 28.575,7.144 ; 0,-9.525 -28.575,-9.525 -28.575,9.525 0,9.525 ; 0,-9.525 28.575,-9.525 28.575,9.525 0,9.525

## I-6.25U [mm] "Imperial Sizing"
pads (20):
  round 0.1 hole 0.4 unplated: 27(-54.025,-0.295) 27(-54.02,2.1) 27(-53.125,-6.565) 27(-53.12,5.33) 27(-51.3,-7.765) 27(-48.705,-7.77) 27(-46.88,-6.57) 27(-46.875,5.325) 27(-6.8,-6.795) 27(-6.795,6.8) 27(6.795,6.8) 27(6.8,-6.795) 27(46.875,5.325) 27(46.88,-6.57) 27(48.705,-7.77) 27(51.3,-7.765) 27(53.12,5.33) 27(53.125,-6.565) 27(54.02,2.1) 27(54.025,-0.295)
Keep-Out Layer:
  drawing of 1 lines, arcs and shapes, not listed
Board Outline:
  lines w0.1: -54.225,-0.3 ccw(c-54.025,-0.3) -54.025,-0.5 -53.325,-0.5 -53.325,-6.57 ccw(c-53.125,-6.57) -53.125,-6.77 -51.5,-6.77 -51.5,-7.77 ccw(c-51.3,-7.77) -51.3,-7.97 -48.7,-7.97 ccw(c-48.7,-7.77) -48.5,-7.77 -48.5,-6.77 -46.875,-6.77 ccw(c-46.875,-6.57) -46.675,-6.57 -46.675,-2.3 -7,-2.3 -7,-6.8 ccw(c-6.8,-6.8) -6.8,-7 6.8,-7 ccw(c6.8,-6.8) 7,-6.8 7,-2.3 46.675,-2.3 46.675,-6.57 ccw(c46.875,-6.57) 46.875,-6.77 48.5,-6.77 48.5,-7.77 ccw(c48.7,-7.77) 48.7,-7.97 51.3,-7.97 ccw(c51.3,-7.77) 51.5,-7.77 51.5,-6.77 53.125,-6.77 ccw(c53.125,-6.57) 53.325,-6.57 53.325,-0.5 54.025,-0.5 ccw(c54.025,-0.3) 54.225,-0.3 54.225,2.1 ccw(c54.025,2.1) 54.025,2.3 53.325,2.3 53.325,5.33 ccw(c53.125,5.33) 53.125,5.53 46.875,5.53 ccw(c46.875,5.33) 46.675,5.33 46.675,2.3 7,2.3 7,6.8 ccw(c6.8,6.8) 6.8,7 -6.8,7 ccw(c-6.8,6.8) -7,6.8 -7,2.3 -46.675,2.3 -46.675,5.33 ccw(c-46.875,5.33) -46.875,5.53 -53.125,5.53 ccw(c-53.125,5.33) -53.325,5.33 -53.325,2.3 -54.025,2.3 ccw(c-54.025,2.1) -54.225,2.1 -54.225,-0.3
  text "Cut Out" at -2.915,-6.117 h1
  text "Cut Out" at 6.009,-2.91 h1
  text "Cut Out" at 2.802,6.014 h1
  text "Cut Out" at -6.122,2.807 h1
Layout + Dimensions:
  lines w0.1: -59.531,-7.144 -58.744,-7.144 ; -59.531,-4.763 -58.261,-4.763 ; -59.531,-2.381 -58.744,-2.381 ; -59.531,2.381 -58.744,2.381 ; -59.531,4.762 -58.261,4.762 ; -59.531,7.144 -58.744,7.144 ; -59.506,0 -57.506,0 ; -59.375,0 -0.375,0 ; -57.15,-9.5 -57.15,-7.5 ; -57.15,7.5 -57.15,9.5 ; -54.769,-9.525 -54.769,-8.738 ; -54.769,8.738 -54.769,9.525 ; -52.387,-9.525 -52.387,-8.255 ; -52.387,8.255 -52.387,9.525 ; -50.006,-9.525 -50.006,-8.738 ; -50.006,8.738 -50.006,9.525 ; -50,-7.425 -50,2.375 ; -47.625,-9.5 -47.625,-7.5 ; -47.625,7.5 -47.625,9.5 ; -45.244,-9.525 -45.244,-8.738 ; -45.244,8.738 -45.244,9.525 ; -42.862,-9.525 -42.862,-8.255 ; -42.862,8.255 -42.862,9.525 ; -40.481,-9.525 -40.481,-8.738 ; -40.481,8.738 -40.481,9.525 ; -38.1,-7.525 -38.1,-9.525 ; -38.1,7.525 -38.1,9.525 ; -35.719,-9.525 -35.719,-8.738 ; -35.719,8.738 -35.719,9.525 ; -33.337,-9.525 -33.337,-8.255 ; -33.337,8.255 -33.337,9.525 ; -30.956,-9.525 -30.956,-8.738 ; -30.956,8.738 -30.956,9.525 ; -28.575,-9.5 -28.575,-7.5 ; -28.575,7.5 -28.575,9.5 ; -26.194,-9.525 -26.194,-8.738 ; -26.194,8.738 -26.194,9.525 ; -23.812,-9.525 -23.812,-8.255 ; -23.812,8.255 -23.812,9.525 ; -21.431,-9.525 -21.431,-8.738 ; -21.431,8.738 -21.431,9.525 ; -19.05,-7.525 -19.05,-9.525 ; -19.05,7.525 -19.05,9.525 ; -16.669,-9.525 -16.669,-8.738 ; -16.669,8.738 -16.669,9.525 ; -14.287,-9.525 -14.287,-8.255 ; -14.287,8.255 -14.287,9.525 ; -11.906,-9.525 -11.906,-8.738 ; -11.906,8.738 -11.906,9.525 ; -9.525,-9.5 -9.525,-7.5 ; -9.525,7.5 -9.525,9.5 ; -7.144,-9.525 -7.144,-8.738 ; -7.144,8.738 -7.144,9.525 ; -4.763,-9.525 -4.763,-8.255 ; -4.763,8.255 -4.763,9.525 ; -2.381,-9.525 -2.381,-8.738 ; -2.381,8.738 -2.381,9.525 ; 0,-7.25 0,-9.525 ; 0,7.25 0,9.525 ; 0.375,0 59.375,0 ; 2.381,-9.525 2.381,-8.738 ; 2.381,8.738 2.381,9.525 ; 4.763,-9.525 4.763,-8.255 ; 4.763,8.255 4.763,9.525 ; 7.144,-9.525 7.144,-8.738 ; 7.144,8.738 7.144,9.525 ; 9.525,-9.5 9.525,-7.5 ; 9.525,7.5 9.525,9.5 ; 11.906,-9.525 11.906,-8.738 ; 11.906,8.738 11.906,9.525 ; 14.287,-9.525 14.287,-8.255 ; 14.287,8.255 14.287,9.525 ; 16.669,-9.525 16.669,-8.738 ; 16.669,8.738 16.669,9.525 ; 19.05,-7.525 19.05,-9.525 ; 19.05,7.525 19.05,9.525 ; 21.431,-9.525 21.431,-8.738 ; 21.431,8.738 21.431,9.525 ; 23.812,-9.525 23.812,-8.255 ; 23.812,8.255 23.812,9.525 ; 26.194,-9.525 26.194,-8.738 ; 26.194,8.738 26.194,9.525 ; 28.575,-9.5 28.575,-7.5 ; 28.575,7.5 28.575,9.5 ; 30.956,-9.525 30.956,-8.738 ; 30.956,8.738 30.956,9.525 ; 33.337,-9.525 33.337,-8.255 ; 33.337,8.255 33.337,9.525 ; 35.719,-9.525 35.719,-8.738 ; 35.719,8.738 35.719,9.525 ; 38.1,-7.525 38.1,-9.525 ; 38.1,7.525 38.1,9.525 ; 40.481,-9.525 40.481,-8.738 ; 40.481,8.738 40.481,9.525 ; 42.862,-9.525 42.862,-8.255 ; 42.862,8.255 42.862,9.525 ; 45.244,-9.525 45.244,-8.738 ; 45.244,8.738 45.244,9.525 ; 47.625,-9.5 47.625,-7.5 ; 47.625,7.5 47.625,9.5 ; 50,-7.425 50,2.375 ; 50.006,-9.525 50.006,-8.738 ; 50.006,8.738 50.006,9.525 ; 52.387,-9.525 52.387,-8.255 ; 52.387,8.255 52.387,9.525 ; 54.769,-9.525 54.769,-8.738 ; 54.769,8.738 54.769,9.525 ; 55.125,0 57.125,0 ; 57.15,-9.5 57.15,-7.5 ; 57.15,7.5 57.15,9.5 ; 58.261,-4.763 59.531,-4.763 ; 58.261,4.762 59.531,4.762 ; 58.744,-7.144 59.531,-7.144 ; 58.744,-2.381 59.531,-2.381 ; 58.744,2.381 59.531,2.381 ; 58.744,7.144 59.531,7.144 ; -38.1,-9.525 -59.531,-9.525 -59.531,9.525 -38.1,9.525 ; -38.1,-9.525 -19.05,-9.525 ; -38.1,9.525 -19.05,9.525 ; -19.05,-9.525 0,-9.525 ; -19.05,9.525 0,9.525 ; 0,-9.525 19.05,-9.525 ; 0,9.525 19.05,9.525 ; 19.05,-9.525 38.1,-9.525 ; 19.05,9.525 38.1,9.525 ; 38.1,-9.525 59.531,-9.525 59.531,9.525 38.1,9.525

## I-6.25U - duplicate [mm] "Imperial Sizing"
pads (20):
  round 0.1 hole 0.4 unplated: 27(-54.025,-0.295) 27(-54.02,2.1) 27(-53.125,-6.565) 27(-53.12,5.33) 27(-51.3,-7.765) 27(-48.705,-7.77) 27(-46.88,-6.57) 27(-46.875,5.325) 27(-6.8,-6.795) 27(-6.795,6.8) 27(6.795,6.8) 27(6.8,-6.795) 27(46.875,5.325) 27(46.88,-6.57) 27(48.705,-7.77) 27(51.3,-7.765) 27(53.12,5.33) 27(53.125,-6.565) 27(54.02,2.1) 27(54.025,-0.295)
Keep-Out Layer:
  drawing of 1 lines, arcs and shapes, not listed
Board Outline:
  lines w0.1: -54.225,-0.3 ccw(c-54.025,-0.3) -54.025,-0.5 -53.325,-0.5 -53.325,-6.57 ccw(c-53.125,-6.57) -53.125,-6.77 -51.5,-6.77 -51.5,-7.77 ccw(c-51.3,-7.77) -51.3,-7.97 -48.7,-7.97 ccw(c-48.7,-7.77) -48.5,-7.77 -48.5,-6.77 -46.875,-6.77 ccw(c-46.875,-6.57) -46.675,-6.57 -46.675,-2.3 -7,-2.3 -7,-6.8 ccw(c-6.8,-6.8) -6.8,-7 6.8,-7 ccw(c6.8,-6.8) 7,-6.8 7,-2.3 46.675,-2.3 46.675,-6.57 ccw(c46.875,-6.57) 46.875,-6.77 48.5,-6.77 48.5,-7.77 ccw(c48.7,-7.77) 48.7,-7.97 51.3,-7.97 ccw(c51.3,-7.77) 51.5,-7.77 51.5,-6.77 53.125,-6.77 ccw(c53.125,-6.57) 53.325,-6.57 53.325,-0.5 54.025,-0.5 ccw(c54.025,-0.3) 54.225,-0.3 54.225,2.1 ccw(c54.025,2.1) 54.025,2.3 53.325,2.3 53.325,5.33 ccw(c53.125,5.33) 53.125,5.53 46.875,5.53 ccw(c46.875,5.33) 46.675,5.33 46.675,2.3 7,2.3 7,6.8 ccw(c6.8,6.8) 6.8,7 -6.8,7 ccw(c-6.8,6.8) -7,6.8 -7,2.3 -46.675,2.3 -46.675,5.33 ccw(c-46.875,5.33) -46.875,5.53 -53.125,5.53 ccw(c-53.125,5.33) -53.325,5.33 -53.325,2.3 -54.025,2.3 ccw(c-54.025,2.1) -54.225,2.1 -54.225,-0.3
  text "Cut Out" at -6.122,2.807 h1
  text "Cut Out" at 2.802,6.014 h1
  text "Cut Out" at 6.009,-2.91 h1
  text "Cut Out" at -2.915,-6.117 h1
Layout + Dimensions:
  lines w0.1: -59.531,-7.144 -58.744,-7.144 ; -59.531,-4.763 -58.261,-4.763 ; -59.531,-2.381 -58.744,-2.381 ; -59.531,2.381 -58.744,2.381 ; -59.531,4.762 -58.261,4.762 ; -59.531,7.144 -58.744,7.144 ; -59.506,0 -57.506,0 ; -59.375,0 -0.375,0 ; -57.15,-9.5 -57.15,-7.5 ; -57.15,7.5 -57.15,9.5 ; -54.769,-9.525 -54.769,-8.738 ; -54.769,8.738 -54.769,9.525 ; -52.387,-9.525 -52.387,-8.255 ; -52.387,8.255 -52.387,9.525 ; -50.006,-9.525 -50.006,-8.738 ; -50.006,8.738 -50.006,9.525 ; -50,-7.425 -50,2.375 ; -47.625,-9.5 -47.625,-7.5 ; -47.625,7.5 -47.625,9.5 ; -45.244,-9.525 -45.244,-8.738 ; -45.244,8.738 -45.244,9.525 ; -42.862,-9.525 -42.862,-8.255 ; -42.862,8.255 -42.862,9.525 ; -40.481,-9.525 -40.481,-8.738 ; -40.481,8.738 -40.481,9.525 ; -38.1,-7.525 -38.1,-9.525 ; -38.1,7.525 -38.1,9.525 ; -35.719,-9.525 -35.719,-8.738 ; -35.719,8.738 -35.719,9.525 ; -33.337,-9.525 -33.337,-8.255 ; -33.337,8.255 -33.337,9.525 ; -30.956,-9.525 -30.956,-8.738 ; -30.956,8.738 -30.956,9.525 ; -28.575,-9.5 -28.575,-7.5 ; -28.575,7.5 -28.575,9.5 ; -26.194,-9.525 -26.194,-8.738 ; -26.194,8.738 -26.194,9.525 ; -23.812,-9.525 -23.812,-8.255 ; -23.812,8.255 -23.812,9.525 ; -21.431,-9.525 -21.431,-8.738 ; -21.431,8.738 -21.431,9.525 ; -19.05,-7.525 -19.05,-9.525 ; -19.05,7.525 -19.05,9.525 ; -16.669,-9.525 -16.669,-8.738 ; -16.669,8.738 -16.669,9.525 ; -14.287,-9.525 -14.287,-8.255 ; -14.287,8.255 -14.287,9.525 ; -11.906,-9.525 -11.906,-8.738 ; -11.906,8.738 -11.906,9.525 ; -9.525,-9.5 -9.525,-7.5 ; -9.525,7.5 -9.525,9.5 ; -7.144,-9.525 -7.144,-8.738 ; -7.144,8.738 -7.144,9.525 ; -4.763,-9.525 -4.763,-8.255 ; -4.763,8.255 -4.763,9.525 ; -2.381,-9.525 -2.381,-8.738 ; -2.381,8.738 -2.381,9.525 ; 0,-7.25 0,-9.525 ; 0,7.25 0,9.525 ; 0.375,0 59.375,0 ; 2.381,-9.525 2.381,-8.738 ; 2.381,8.738 2.381,9.525 ; 4.763,-9.525 4.763,-8.255 ; 4.763,8.255 4.763,9.525 ; 7.144,-9.525 7.144,-8.738 ; 7.144,8.738 7.144,9.525 ; 9.525,-9.5 9.525,-7.5 ; 9.525,7.5 9.525,9.5 ; 11.906,-9.525 11.906,-8.738 ; 11.906,8.738 11.906,9.525 ; 14.287,-9.525 14.287,-8.255 ; 14.287,8.255 14.287,9.525 ; 16.669,-9.525 16.669,-8.738 ; 16.669,8.738 16.669,9.525 ; 19.05,-7.525 19.05,-9.525 ; 19.05,7.525 19.05,9.525 ; 21.431,-9.525 21.431,-8.738 ; 21.431,8.738 21.431,9.525 ; 23.812,-9.525 23.812,-8.255 ; 23.812,8.255 23.812,9.525 ; 26.194,-9.525 26.194,-8.738 ; 26.194,8.738 26.194,9.525 ; 28.575,-9.5 28.575,-7.5 ; 28.575,7.5 28.575,9.5 ; 30.956,-9.525 30.956,-8.738 ; 30.956,8.738 30.956,9.525 ; 33.337,-9.525 33.337,-8.255 ; 33.337,8.255 33.337,9.525 ; 35.719,-9.525 35.719,-8.738 ; 35.719,8.738 35.719,9.525 ; 38.1,-7.525 38.1,-9.525 ; 38.1,7.525 38.1,9.525 ; 40.481,-9.525 40.481,-8.738 ; 40.481,8.738 40.481,9.525 ; 42.862,-9.525 42.862,-8.255 ; 42.862,8.255 42.862,9.525 ; 45.244,-9.525 45.244,-8.738 ; 45.244,8.738 45.244,9.525 ; 47.625,-9.5 47.625,-7.5 ; 47.625,7.5 47.625,9.5 ; 50,-7.425 50,2.375 ; 50.006,-9.525 50.006,-8.738 ; 50.006,8.738 50.006,9.525 ; 52.387,-9.525 52.387,-8.255 ; 52.387,8.255 52.387,9.525 ; 54.769,-9.525 54.769,-8.738 ; 54.769,8.738 54.769,9.525 ; 55.125,0 57.125,0 ; 57.15,-9.5 57.15,-7.5 ; 57.15,7.5 57.15,9.5 ; 58.261,-4.763 59.531,-4.763 ; 58.261,4.762 59.531,4.762 ; 58.744,-7.144 59.531,-7.144 ; 58.744,-2.381 59.531,-2.381 ; 58.744,2.381 59.531,2.381 ; 58.744,7.144 59.531,7.144 ; -38.1,-9.525 -19.05,-9.525 ; -38.1,-9.525 -59.531,-9.525 -59.531,9.525 -38.1,9.525 ; -38.1,9.525 -19.05,9.525 ; -19.05,-9.525 0,-9.525 ; -19.05,9.525 0,9.525 ; 0,-9.525 19.05,-9.525 ; 0,9.525 19.05,9.525 ; 19.05,-9.525 38.1,-9.525 ; 19.05,9.525 38.1,9.525 ; 38.1,-9.525 59.531,-9.525 59.531,9.525 38.1,9.525

## I-6U [mm] "Imperial Sizing"
pads (20):
  round 0.1 hole 0.4 unplated: 27(-51.65,-0.295) 27(-51.645,2.1) 27(-50.75,-6.565) 27(-50.745,5.33) 27(-48.925,-7.765) 27(-46.33,-7.77) 27(-44.505,-6.57) 27(-44.5,5.325) 27(-6.8,-6.795) 27(-6.795,6.8) 27(6.795,6.8) 27(6.8,-6.795) 27(44.5,5.325) 27(44.505,-6.57) 27(46.33,-7.77) 27(48.925,-7.765) 27(50.745,5.33) 27(50.75,-6.565) 27(51.645,2.1) 27(51.65,-0.295)
Keep-Out Layer:
  drawing of 1 lines, arcs and shapes, not listed
Board Outline:
  lines w0.1: -51.85,-0.3 ccw(c-51.65,-0.3) -51.65,-0.5 -50.95,-0.5 -50.95,-6.57 ccw(c-50.75,-6.57) -50.75,-6.77 -49.125,-6.77 -49.125,-7.77 ccw(c-48.925,-7.77) -48.925,-7.97 -46.325,-7.97 ccw(c-46.325,-7.77) -46.125,-7.77 -46.125,-6.77 -44.5,-6.77 ccw(c-44.5,-6.57) -44.3,-6.57 -44.3,-2.3 -7,-2.3 -7,-6.8 ccw(c-6.8,-6.8) -6.8,-7 6.8,-7 ccw(c6.8,-6.8) 7,-6.8 7,-2.3 44.3,-2.3 44.3,-6.57 ccw(c44.5,-6.57) 44.5,-6.77 46.125,-6.77 46.125,-7.77 ccw(c46.325,-7.77) 46.325,-7.97 48.925,-7.97 ccw(c48.925,-7.77) 49.125,-7.77 49.125,-6.77 50.75,-6.77 ccw(c50.75,-6.57) 50.95,-6.57 50.95,-0.5 51.65,-0.5 ccw(c51.65,-0.3) 51.85,-0.3 51.85,2.1 ccw(c51.65,2.1) 51.65,2.3 50.95,2.3 50.95,5.33 ccw(c50.75,5.33) 50.75,5.53 44.5,5.53 ccw(c44.5,5.33) 44.3,5.33 44.3,2.3 7,2.3 7,6.8 ccw(c6.8,6.8) 6.8,7 -6.8,7 ccw(c-6.8,6.8) -7,6.8 -7,2.3 -44.3,2.3 -44.3,5.33 ccw(c-44.5,5.33) -44.5,5.53 -50.75,5.53 ccw(c-50.75,5.33) -50.95,5.33 -50.95,2.3 -51.65,2.3 ccw(c-51.65,2.1) -51.85,2.1 -51.85,-0.3
  text "Cut Out" at -6.122,2.807 h1
  text "Cut Out" at 2.802,6.014 h1
  text "Cut Out" at 6.009,-2.91 h1
  text "Cut Out" at -2.915,-6.117 h1
Layout + Dimensions:
  lines w0.1: -57.15,-7.144 -56.363,-7.144 ; -57.15,-4.763 -55.88,-4.763 ; -57.15,-2.381 -56.363,-2.381 ; -57.15,2.381 -56.363,2.381 ; -57.15,4.763 -55.88,4.763 ; -57.15,7.144 -56.363,7.144 ; -57.125,0 -55.125,0 ; -54.769,-9.525 -54.769,-8.738 ; -54.769,8.738 -54.769,9.525 ; -52.387,-9.525 -52.387,-8.255 ; -52.387,8.255 -52.387,9.525 ; -50.006,-9.525 -50.006,-8.738 ; -50.006,8.738 -50.006,9.525 ; -47.625,-9.5 -47.625,-7.5 ; -47.625,7.5 -47.625,9.5 ; -45.244,-9.525 -45.244,-8.738 ; -45.244,8.738 -45.244,9.525 ; -42.862,-9.525 -42.862,-8.255 ; -42.862,8.255 -42.862,9.525 ; -40.481,-9.525 -40.481,-8.738 ; -40.481,8.738 -40.481,9.525 ; -38.1,-7.525 -38.1,-9.525 ; -38.1,7.525 -38.1,9.525 ; -35.719,-9.525 -35.719,-8.738 ; -35.719,8.738 -35.719,9.525 ; -33.337,-9.525 -33.337,-8.255 ; -33.337,8.255 -33.337,9.525 ; -30.956,-9.525 -30.956,-8.738 ; -30.956,8.738 -30.956,9.525 ; -28.575,-9.5 -28.575,-7.5 ; -28.575,7.5 -28.575,9.5 ; -26.194,-9.525 -26.194,-8.738 ; -26.194,8.738 -26.194,9.525 ; -23.812,-9.525 -23.812,-8.255 ; -23.812,8.255 -23.812,9.525 ; -21.431,-9.525 -21.431,-8.738 ; -21.431,8.738 -21.431,9.525 ; -19.05,-7.525 -19.05,-9.525 ; -19.05,7.525 -19.05,9.525 ; -16.669,-9.525 -16.669,-8.738 ; -16.669,8.738 -16.669,9.525 ; -14.287,-9.525 -14.287,-8.255 ; -14.287,8.255 -14.287,9.525 ; -11.906,-9.525 -11.906,-8.738 ; -11.906,8.738 -11.906,9.525 ; -9.525,-9.5 -9.525,-7.5 ; -9.525,7.5 -9.525,9.5 ; -7.144,-9.525 -7.144,-8.738 ; -7.144,8.738 -7.144,9.525 ; -4.763,-9.525 -4.763,-8.255 ; -4.763,8.255 -4.763,9.525 ; -2.381,-9.525 -2.381,-8.738 ; -2.381,8.738 -2.381,9.525 ; 0,-7.25 0,-9.525 ; 0,7.25 0,9.525 ; 2.381,-9.525 2.381,-8.738 ; 2.381,8.738 2.381,9.525 ; 4.763,-9.525 4.763,-8.255 ; 4.763,8.255 4.763,9.525 ; 7.144,-9.525 7.144,-8.738 ; 7.144,8.738 7.144,9.525 ; 9.525,-9.5 9.525,-7.5 ; 9.525,7.5 9.525,9.5 ; 11.906,-9.525 11.906,-8.738 ; 11.906,8.738 11.906,9.525 ; 14.287,-9.525 14.287,-8.255 ; 14.287,8.255 14.287,9.525 ; 16.669,-9.525 16.669,-8.738 ; 16.669,8.738 16.669,9.525 ; 19.05,-7.525 19.05,-9.525 ; 19.05,7.525 19.05,9.525 ; 21.431,-9.525 21.431,-8.738 ; 21.431,8.738 21.431,9.525 ; 23.812,-9.525 23.812,-8.255 ; 23.812,8.255 23.812,9.525 ; 26.194,-9.525 26.194,-8.738 ; 26.194,8.738 26.194,9.525 ; 28.575,-9.5 28.575,-7.5 ; 28.575,7.5 28.575,9.5 ; 30.956,-9.525 30.956,-8.738 ; 30.956,8.738 30.956,9.525 ; 33.337,-9.525 33.337,-8.255 ; 33.337,8.255 33.337,9.525 ; 35.719,-9.525 35.719,-8.738 ; 35.719,8.738 35.719,9.525 ; 38.1,-7.525 38.1,-9.525 ; 38.1,7.525 38.1,9.525 ; 40.481,-9.525 40.481,-8.738 ; 40.481,8.738 40.481,9.525 ; 42.862,-9.525 42.862,-8.255 ; 42.862,8.255 42.862,9.525 ; 45.244,-9.525 45.244,-8.738 ; 45.244,8.738 45.244,9.525 ; 47.625,-9.5 47.625,-7.5 ; 47.625,7.5 47.625,9.5 ; 50.006,-9.525 50.006,-8.738 ; 50.006,8.738 50.006,9.525 ; 52.387,-9.525 52.387,-8.255 ; 52.387,8.255 52.387,9.525 ; 54.769,-9.525 54.769,-8.738 ; 54.769,8.738 54.769,9.525 ; 55.125,0 57.125,0 ; 55.88,-4.763 57.15,-4.763 ; 55.88,4.763 57.15,4.763 ; 56.363,-7.144 57.15,-7.144 ; 56.363,-2.381 57.15,-2.381 ; 56.363,2.381 57.15,2.381 ; 56.363,7.144 57.15,7.144 ; -38.1,-9.525 -57.15,-9.525 -57.15,9.525 -38.1,9.525 ; -38.1,-9.525 -19.05,-9.525 ; -38.1,9.525 -19.05,9.525 ; -19.05,-9.525 0,-9.525 ; -19.05,9.525 0,9.525 ; 0,-9.525 19.05,-9.525 ; 0,9.525 19.05,9.525 ; 19.05,-9.525 38.1,-9.525 ; 19.05,9.525 38.1,9.525 ; 38.1,-9.525 57.15,-9.525 57.15,9.525 38.1,9.525

## I-6U - duplicate [mm] "Imperial Sizing"
pads (20):
  round 0.1 hole 0.4 unplated: 27(-51.65,-0.295) 27(-51.645,2.1) 27(-50.75,-6.565) 27(-50.745,5.33) 27(-48.925,-7.765) 27(-46.33,-7.77) 27(-44.505,-6.57) 27(-44.5,5.325) 27(-6.8,-6.795) 27(-6.795,6.8) 27(6.795,6.8) 27(6.8,-6.795) 27(44.5,5.325) 27(44.505,-6.57) 27(46.33,-7.77) 27(48.925,-7.765) 27(50.745,5.33) 27(50.75,-6.565) 27(51.645,2.1) 27(51.65,-0.295)
Keep-Out Layer:
  drawing of 1 lines, arcs and shapes, not listed
Board Outline:
  lines w0.1: -51.85,-0.3 ccw(c-51.65,-0.3) -51.65,-0.5 -50.95,-0.5 -50.95,-6.57 ccw(c-50.75,-6.57) -50.75,-6.77 -49.125,-6.77 -49.125,-7.77 ccw(c-48.925,-7.77) -48.925,-7.97 -46.325,-7.97 ccw(c-46.325,-7.77) -46.125,-7.77 -46.125,-6.77 -44.5,-6.77 ccw(c-44.5,-6.57) -44.3,-6.57 -44.3,-2.3 -7,-2.3 -7,-6.8 ccw(c-6.8,-6.8) -6.8,-7 6.8,-7 ccw(c6.8,-6.8) 7,-6.8 7,-2.3 44.3,-2.3 44.3,-6.57 ccw(c44.5,-6.57) 44.5,-6.77 46.125,-6.77 46.125,-7.77 ccw(c46.325,-7.77) 46.325,-7.97 48.925,-7.97 ccw(c48.925,-7.77) 49.125,-7.77 49.125,-6.77 50.75,-6.77 ccw(c50.75,-6.57) 50.95,-6.57 50.95,-0.5 51.65,-0.5 ccw(c51.65,-0.3) 51.85,-0.3 51.85,2.1 ccw(c51.65,2.1) 51.65,2.3 50.95,2.3 50.95,5.33 ccw(c50.75,5.33) 50.75,5.53 44.5,5.53 ccw(c44.5,5.33) 44.3,5.33 44.3,2.3 7,2.3 7,6.8 ccw(c6.8,6.8) 6.8,7 -6.8,7 ccw(c-6.8,6.8) -7,6.8 -7,2.3 -44.3,2.3 -44.3,5.33 ccw(c-44.5,5.33) -44.5,5.53 -50.75,5.53 ccw(c-50.75,5.33) -50.95,5.33 -50.95,2.3 -51.65,2.3 ccw(c-51.65,2.1) -51.85,2.1 -51.85,-0.3
  text "Cut Out" at -6.122,2.807 h1
  text "Cut Out" at 2.802,6.014 h1
  text "Cut Out" at 6.009,-2.91 h1
  text "Cut Out" at -2.915,-6.117 h1
Layout + Dimensions:
  lines w0.1: -57.15,-7.144 -56.363,-7.144 ; -57.15,-4.763 -55.88,-4.763 ; -57.15,-2.381 -56.363,-2.381 ; -57.15,2.381 -56.363,2.381 ; -57.15,4.763 -55.88,4.763 ; -57.15,7.144 -56.363,7.144 ; -57.125,0 -55.125,0 ; -54.769,-9.525 -54.769,-8.738 ; -54.769,8.738 -54.769,9.525 ; -52.387,-9.525 -52.387,-8.255 ; -52.387,8.255 -52.387,9.525 ; -50.006,-9.525 -50.006,-8.738 ; -50.006,8.738 -50.006,9.525 ; -47.625,-9.5 -47.625,-7.5 ; -47.625,7.5 -47.625,9.5 ; -45.244,-9.525 -45.244,-8.738 ; -45.244,8.738 -45.244,9.525 ; -42.862,-9.525 -42.862,-8.255 ; -42.862,8.255 -42.862,9.525 ; -40.481,-9.525 -40.481,-8.738 ; -40.481,8.738 -40.481,9.525 ; -38.1,-7.525 -38.1,-9.525 ; -38.1,7.525 -38.1,9.525 ; -35.719,-9.525 -35.719,-8.738 ; -35.719,8.738 -35.719,9.525 ; -33.337,-9.525 -33.337,-8.255 ; -33.337,8.255 -33.337,9.525 ; -30.956,-9.525 -30.956,-8.738 ; -30.956,8.738 -30.956,9.525 ; -28.575,-9.5 -28.575,-7.5 ; -28.575,7.5 -28.575,9.5 ; -26.194,-9.525 -26.194,-8.738 ; -26.194,8.738 -26.194,9.525 ; -23.812,-9.525 -23.812,-8.255 ; -23.812,8.255 -23.812,9.525 ; -21.431,-9.525 -21.431,-8.738 ; -21.431,8.738 -21.431,9.525 ; -19.05,-7.525 -19.05,-9.525 ; -19.05,7.525 -19.05,9.525 ; -16.669,-9.525 -16.669,-8.738 ; -16.669,8.738 -16.669,9.525 ; -14.287,-9.525 -14.287,-8.255 ; -14.287,8.255 -14.287,9.525 ; -11.906,-9.525 -11.906,-8.738 ; -11.906,8.738 -11.906,9.525 ; -9.525,-9.5 -9.525,-7.5 ; -9.525,7.5 -9.525,9.5 ; -7.144,-9.525 -7.144,-8.738 ; -7.144,8.738 -7.144,9.525 ; -4.763,-9.525 -4.763,-8.255 ; -4.763,8.255 -4.763,9.525 ; -2.381,-9.525 -2.381,-8.738 ; -2.381,8.738 -2.381,9.525 ; 0,-7.25 0,-9.525 ; 0,7.25 0,9.525 ; 2.381,-9.525 2.381,-8.738 ; 2.381,8.738 2.381,9.525 ; 4.763,-9.525 4.763,-8.255 ; 4.763,8.255 4.763,9.525 ; 7.144,-9.525 7.144,-8.738 ; 7.144,8.738 7.144,9.525 ; 9.525,-9.5 9.525,-7.5 ; 9.525,7.5 9.525,9.5 ; 11.906,-9.525 11.906,-8.738 ; 11.906,8.738 11.906,9.525 ; 14.287,-9.525 14.287,-8.255 ; 14.287,8.255 14.287,9.525 ; 16.669,-9.525 16.669,-8.738 ; 16.669,8.738 16.669,9.525 ; 19.05,-7.525 19.05,-9.525 ; 19.05,7.525 19.05,9.525 ; 21.431,-9.525 21.431,-8.738 ; 21.431,8.738 21.431,9.525 ; 23.812,-9.525 23.812,-8.255 ; 23.812,8.255 23.812,9.525 ; 26.194,-9.525 26.194,-8.738 ; 26.194,8.738 26.194,9.525 ; 28.575,-9.5 28.575,-7.5 ; 28.575,7.5 28.575,9.5 ; 30.956,-9.525 30.956,-8.738 ; 30.956,8.738 30.956,9.525 ; 33.337,-9.525 33.337,-8.255 ; 33.337,8.255 33.337,9.525 ; 35.719,-9.525 35.719,-8.738 ; 35.719,8.738 35.719,9.525 ; 38.1,-7.525 38.1,-9.525 ; 38.1,7.525 38.1,9.525 ; 40.481,-9.525 40.481,-8.738 ; 40.481,8.738 40.481,9.525 ; 42.862,-9.525 42.862,-8.255 ; 42.862,8.255 42.862,9.525 ; 45.244,-9.525 45.244,-8.738 ; 45.244,8.738 45.244,9.525 ; 47.625,-9.5 47.625,-7.5 ; 47.625,7.5 47.625,9.5 ; 50.006,-9.525 50.006,-8.738 ; 50.006,8.738 50.006,9.525 ; 52.387,-9.525 52.387,-8.255 ; 52.387,8.255 52.387,9.525 ; 54.769,-9.525 54.769,-8.738 ; 54.769,8.738 54.769,9.525 ; 55.125,0 57.125,0 ; 55.88,-4.763 57.15,-4.763 ; 55.88,4.763 57.15,4.763 ; 56.363,-7.144 57.15,-7.144 ; 56.363,-2.381 57.15,-2.381 ; 56.363,2.381 57.15,2.381 ; 56.363,7.144 57.15,7.144 ; -38.1,-9.525 -57.15,-9.525 -57.15,9.525 -38.1,9.525 ; -38.1,-9.525 -19.05,-9.525 ; -38.1,9.525 -19.05,9.525 ; -19.05,-9.525 0,-9.525 ; -19.05,9.525 0,9.525 ; 0,-9.525 19.05,-9.525 ; 0,9.525 19.05,9.525 ; 19.05,-9.525 38.1,-9.525 ; 19.05,9.525 38.1,9.525 ; 38.1,-9.525 57.15,-9.525 57.15,9.525 38.1,9.525